# Altium schematic symbol library Diode_ON_Semiconductor_1N4148WT_300mA.SchLib: 1 symbol
Pins are listed as number, name and electrical type; pins without a type are passive.

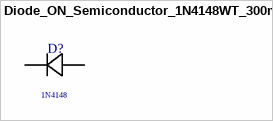
[diagram p0: symbol Diode_ON_Semiconductor_1N4148WT_300mA]

## Diode_ON_Semiconductor_1N4148WT_300mA
designator D?  Series: 1N4148  (hidden comment: Diode_ON_Semiconductor_1N4148WT_300mA)
Diodes - General Purpose, Power, Switching SINGLE JUNC. 75V 4.0NS COMP; Supplier 1: Mouser; Supplier Part Number 1: 512-1N4148WT
footprint Diode_ON_Semiconductor_1N4148WT_300mA
pins: 1, 2